# EAGLE library part APA102 (library jos-ph)
APA102C 5050 RGB LED -- Adafruit DotStar Single LED Pixel Product Page: https://www.adafruit.com/products/2343 Datasheet: https://cdn-shop.adafruit.com/product-files/2343/APA102C.pdf
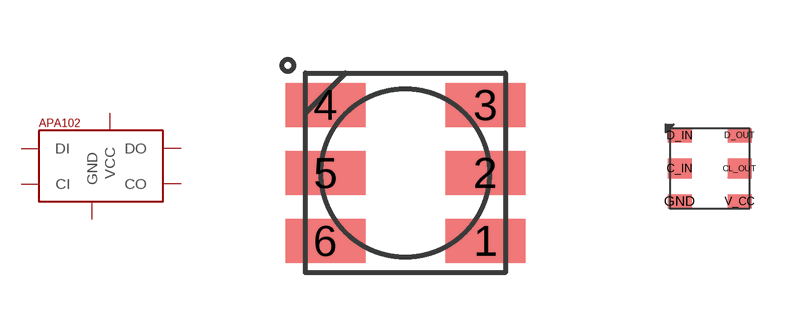
[diagram p9: symbol with the pads of APA102_5050; footprints APA102_5050, APA102_2020]

Designator prefix -

## APA1025050  [APA102_5050]
1  VCC
2  CO
3  DO
4  DI
5  CI
6  GND

## APA1022020  [APA102_2020]
C_IN  CI
CL_OUT  CO
D_IN  DI
D_OUT  DO
GND  GND
V_CC  VCC

## Footprint APA102_5050 (pad centres in mm)
APA102 RGB LED
smd 2 x 1.1: 1 2,-1.7; 2 2,0; 3 2,1.7; 4 -2,1.7; 5 -2,0; 6 -2,-1.7

## Footprint APA102_2020 (pad centres in mm)
smd 0.6 x 0.5: C_IN 0.25,1; CL_OUT 1.75,1
smd 0.6 x 0.35: D_IN 0.25,1.825; D_OUT 1.75,1.825; GND 0.25,0.175; V_CC 1.75,0.175